# Altium schematic symbol library IRLR6225_DT.SchLib: 1 symbol
Pins are listed as number, name and electrical type; pins without a type are passive.

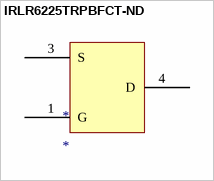
[diagram p0: symbol IRLR6225TRPBFCT-ND]

## IRLR6225TRPBFCT-ND
designator *
mnfr_part_num: IRLR6225TRPBFCT-ND
footprint IRLR6225_DT (D-PAK, 3-Pads, Body 6.21x6.73mm (max), IPC Medium Density)
pins: 1 G, 3 S, 4 D